# EAGLE library part QUALIFIED_1_DUOVERO (library pixhawk2)
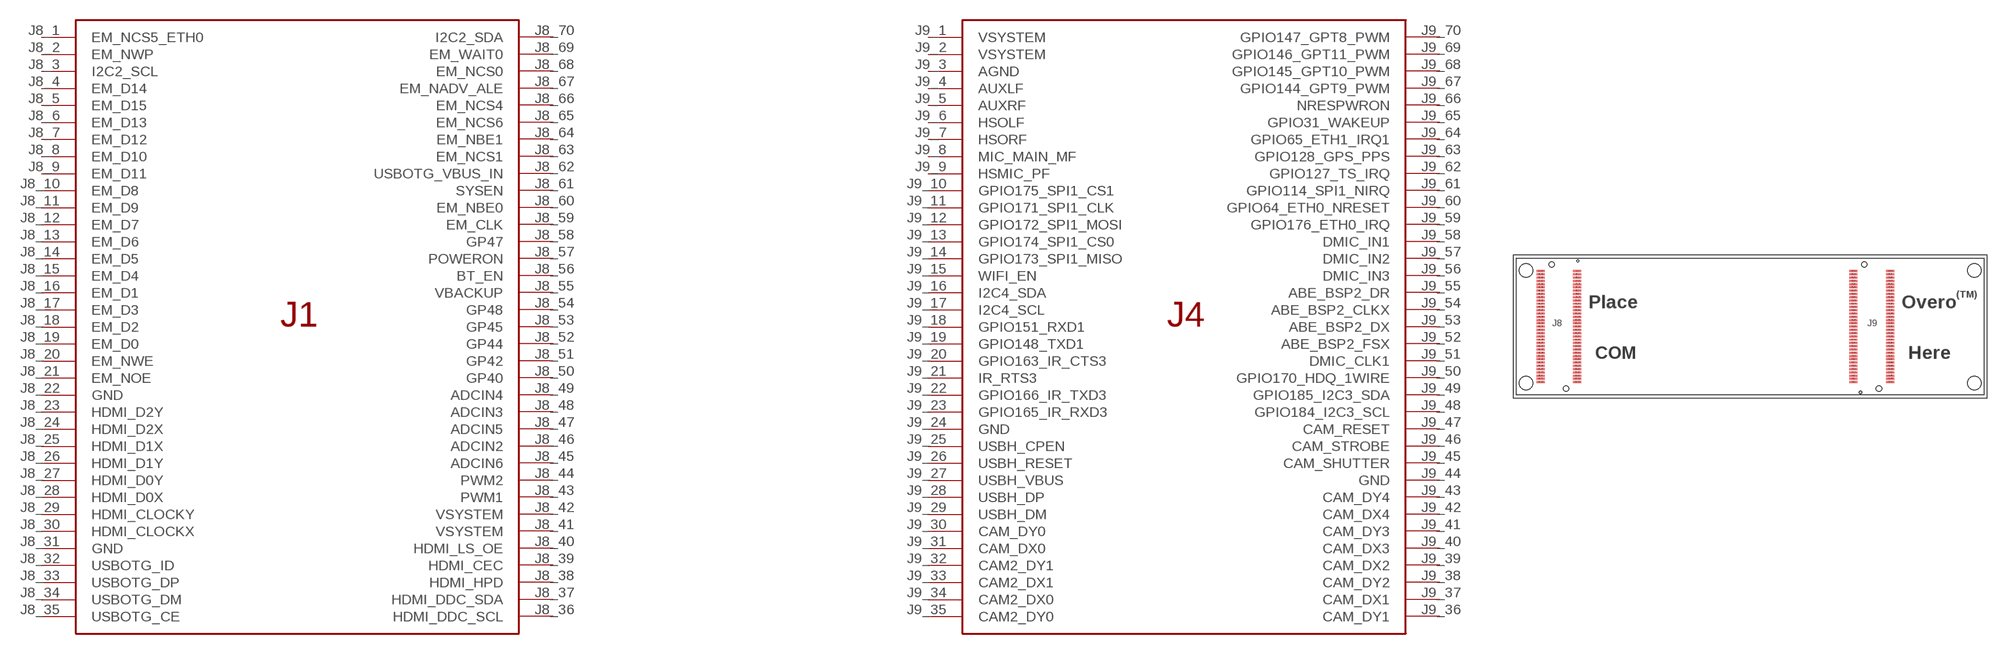
[diagram p61: symbol with the pads of QUALIFIED_1_DUOVERO; footprint QUALIFIED_1_DUOVERO]

Designator prefix -

## QUALIFIED_1_DUOVERO  [QUALIFIED_1_DUOVERO]
J8_1  EM_NCS5_ETH0
J8_2  EM_NWP
J8_3  I2C2_SCL
J8_4  EM_D14
J8_5  EM_D15
J8_6  EM_D13
J8_7  EM_D12
J8_8  EM_D10
J8_9  EM_D11
J8_10  EM_D8
J8_11  EM_D9
J8_12  EM_D7
J8_13  EM_D6
J8_14  EM_D5
J8_15  EM_D4
J8_16  EM_D1
J8_17  EM_D3
J8_18  EM_D2
J8_19  EM_D0
J8_20  EM_NWE
J8_21  EM_NOE
J8_22  GND
J8_23  HDMI_D2Y
J8_24  HDMI_D2X
J8_25  HDMI_D1X
J8_26  HDMI_D1Y
J8_27  HDMI_D0Y
J8_28  HDMI_D0X
J8_29  HDMI_CLOCKY
J8_30  HDMI_CLOCKX
J8_31  GND
J8_32  USBOTG_ID
J8_33  USBOTG_DP
J8_34  USBOTG_DM
J8_35  USBOTG_CE
J8_36  HDMI_DDC_SCL
J8_37  HDMI_DDC_SDA
J8_38  HDMI_HPD
J8_39  HDMI_CEC
J8_40  HDMI_LS_OE
J8_41  VSYSTEM
J8_42  VSYSTEM
J8_43  PWM1
J8_44  PWM2
J8_45  ADCIN6
J8_46  ADCIN2
J8_47  ADCIN5
J8_48  ADCIN3
J8_49  ADCIN4
J8_50  GP40
J8_51  GP42
J8_52  GP44
J8_53  GP45
J8_54  GP48
J8_55  VBACKUP
J8_56  BT_EN
J8_57  POWERON
J8_58  GP47
J8_59  EM_CLK
J8_60  EM_NBE0
J8_61  SYSEN
J8_62  USBOTG_VBUS_IN
J8_63  EM_NCS1
J8_64  EM_NBE1
J8_65  EM_NCS6
J8_66  EM_NCS4
J8_67  EM_NADV_ALE
J8_68  EM_NCS0
J8_69  EM_WAIT0
J8_70  I2C2_SDA
J9_1  VSYSTEM
J9_2  VSYSTEM
J9_3  AGND
J9_4  AUXLF
J9_5  AUXRF
J9_6  HSOLF
J9_7  HSORF
J9_8  MIC_MAIN_MF
J9_9  HSMIC_PF
J9_10  GPIO175_SPI1_CS1
J9_11  GPIO171_SPI1_CLK
J9_12  GPIO172_SPI1_MOSI
J9_13  GPIO174_SPI1_CS0
J9_14  GPIO173_SPI1_MISO
J9_15  WIFI_EN
J9_16  I2C4_SDA
J9_17  I2C4_SCL
J9_18  GPIO151_RXD1
J9_19  GPIO148_TXD1
J9_20  GPIO163_IR_CTS3
J9_21  IR_RTS3
J9_22  GPIO166_IR_TXD3
J9_23  GPIO165_IR_RXD3
J9_24  GND
J9_25  USBH_CPEN
J9_26  USBH_RESET
J9_27  USBH_VBUS
J9_28  USBH_DP
J9_29  USBH_DM
J9_30  CAM_DY0
J9_31  CAM_DX0
J9_32  CAM2_DY1
J9_33  CAM2_DX1
J9_34  CAM2_DX0
J9_35  CAM2_DY0
J9_36  CAM_DY1
J9_37  CAM_DX1
J9_38  CAM_DY2
J9_39  CAM_DX2
J9_40  CAM_DX3
J9_41  CAM_DY3
J9_42  CAM_DX4
J9_43  CAM_DY4
J9_44  GND
J9_45  CAM_SHUTTER
J9_46  CAM_STROBE
J9_47  CAM_RESET
J9_48  GPIO184_I2C3_SCL
J9_49  GPIO185_I2C3_SDA
J9_50  GPIO170_HDQ_1WIRE
J9_51  DMIC_CLK1
J9_52  ABE_BSP2_FSX
J9_53  ABE_BSP2_DX
J9_54  ABE_BSP2_CLKX
J9_55  ABE_BSP2_DR
J9_56  DMIC_IN3
J9_57  DMIC_IN2
J9_58  DMIC_IN1
J9_59  GPIO176_ETH0_IRQ
J9_60  GPIO64_ETH0_NRESET
J9_61  GPIO114_SPI1_NIRQ
J9_62  GPIO127_TS_IRQ
J9_63  GPIO128_GPS_PPS
J9_64  GPIO65_ETH1_IRQ1
J9_65  GPIO31_WAKEUP
J9_66  NRESPWRON
J9_67  GPIO144_GPT9_PWM
J9_68  GPIO145_GPT10_PWM
J9_69  GPIO146_GPT11_PWM
J9_70  GPIO147_GPT8_PWM

## Footprint QUALIFIED_1_DUOVERO (pad centres in mm)
smd 1 x 0.23: J8_1 -21.15,6.8; J8_2 -21.15,6.4; J8_3 -21.15,6; J8_4 -21.15,5.6; J8_5 -21.15,5.2; J8_6 -21.15,4.8; J8_7 -21.15,4.4; J8_8 -21.15,4; J8_9 -21.15,3.6; J8_10 -21.15,3.2; J8_11 -21.15,2.8; J8_12 -21.15,2.4; J8_13 -21.15,2; J8_14 -21.15,1.6; J8_15 -21.15,1.2; J8_16 -21.15,0.8; J8_17 -21.15,0.4; J8_18 -21.15,0; J8_19 -21.15,-0.4; J8_20 -21.15,-0.8; J8_21 -21.15,-1.2; J8_22 -21.15,-1.6; J8_23 -21.15,-2; J8_24 -21.15,-2.4; J8_25 -21.15,-2.8; J8_26 -21.15,-3.2; J8_27 -21.15,-3.6; J8_28 -21.15,-4; J8_29 -21.15,-4.4; J8_30 -21.15,-4.8; J8_31 -21.15,-5.2; J8_32 -21.15,-5.6; J8_33 -21.15,-6; J8_34 -21.15,-6.4; J8_35 -21.15,-6.8; J8_36 -25.65,-6.8; J8_37 -25.65,-6.4; J8_38 -25.65,-6; J8_39 -25.65,-5.6; J8_40 -25.65,-5.2; J8_41 -25.65,-4.8; J8_42 -25.65,-4.4; J8_43 -25.65,-4; J8_44 -25.65,-3.6; J8_45 -25.65,-3.2; J8_46 -25.65,-2.8; J8_47 -25.65,-2.4; J8_48 -25.65,-2; J8_49 -25.65,-1.6; J8_50 -25.65,-1.2; J8_51 -25.65,-0.8; J8_52 -25.65,-0.4; J8_53 -25.65,0; J8_54 -25.65,0.4; J8_55 -25.65,0.8; J8_56 -25.65,1.2; J8_57 -25.65,1.6; J8_58 -25.65,2; J8_59 -25.65,2.4; J8_60 -25.65,2.8; J8_61 -25.65,3.2; J8_62 -25.65,3.6; J8_63 -25.65,4; J8_64 -25.65,4.4; J8_65 -25.65,4.8; J8_66 -25.65,5.2; J8_67 -25.65,5.6; J8_68 -25.65,6; J8_69 -25.65,6.4; J8_70 -25.65,6.8; J9_1 12.6,-6.8; J9_2 12.6,-6.4; J9_3 12.6,-6; J9_4 12.6,-5.6; J9_5 12.6,-5.2; J9_6 12.6,-4.8; J9_7 12.6,-4.4; J9_8 12.6,-4; J9_9 12.6,-3.6; J9_10 12.6,-3.2; J9_11 12.6,-2.8; J9_12 12.6,-2.4; J9_13 12.6,-2; J9_14 12.6,-1.6; J9_15 12.6,-1.2; J9_16 12.6,-0.8; J9_17 12.6,-0.4; J9_18 12.6,0; J9_19 12.6,0.4; J9_20 12.6,0.8; J9_21 12.6,1.2; J9_22 12.6,1.6; J9_23 12.6,2; J9_24 12.6,2.4; J9_25 12.6,2.8; J9_26 12.6,3.2; J9_27 12.6,3.6; J9_28 12.6,4; J9_29 12.6,4.4; J9_30 12.6,4.8; J9_31 12.6,5.2; J9_32 12.6,5.6; J9_33 12.6,6; J9_34 12.6,6.4; J9_35 12.6,6.8; J9_36 17.1,6.8; J9_37 17.1,6.4; J9_38 17.1,6; J9_39 17.1,5.6; J9_40 17.1,5.2; J9_41 17.1,4.8; J9_42 17.1,4.4; J9_43 17.1,4; J9_44 17.1,3.6; J9_45 17.1,3.2; J9_46 17.1,2.8; J9_47 17.1,2.4; J9_48 17.1,2; J9_49 17.1,1.6; J9_50 17.1,1.2; J9_51 17.1,0.8; J9_52 17.1,0.4; J9_53 17.1,0; J9_54 17.1,-0.4; J9_55 17.1,-0.8; J9_56 17.1,-1.2; J9_57 17.1,-1.6; J9_58 17.1,-2; J9_59 17.1,-2.4; J9_60 17.1,-2.8; J9_61 17.1,-3.2; J9_62 17.1,-3.6; J9_63 17.1,-4; J9_64 17.1,-4.4; J9_65 17.1,-4.8; J9_66 17.1,-5.2; J9_67 17.1,-5.6; J9_68 17.1,-6; J9_69 17.1,-6.4; J9_70 17.1,-6.8
hole 1.65 at 27.4,6.9
hole 1.65 at 27.4,-6.9
hole 0.65 at -24.3,7.6
hole 0.65 at -22.5,-7.6
hole 0.65 at 13.95,7.6
hole 0.65 at 15.75,-7.6
hole 1.65 at -27.4,6.9
hole 1.65 at -27.4,-6.9